# EAGLE library part CHIP (library PP_Sensors)
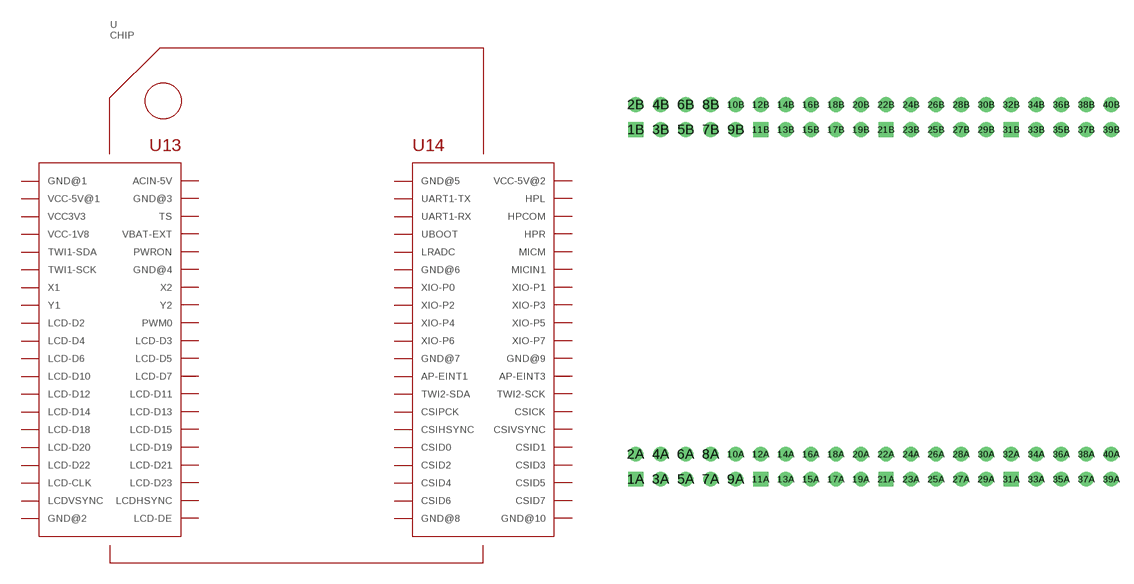
[diagram p6: symbol with the pads of 2X20CHIP; footprint 2X20CHIP]

Designator prefix U

## CHIP  [2X20CHIP]
1A  GND  pwr
1B  GND  pwr
2A  ACIN-5V  pas
2B  VCC-5V  pwr
3A  VCC-5V  pwr
3B  UART1-TX  pas
4A  GND  pwr
4B  HPL  pas
5A  VCC3V3  pwr
5B  UART1-RX  pas
6A  TS  pas
6B  HPCOM  pas
7A  VCC-1V8  pwr
7B  UBOOT  pas
8A  VBAT-EXT  pas
8B  HPR  pas
9A  TWI1-SDA  pas
9B  LRADC  pas
10A  PWRON  pas
10B  MICM  pas
11A  TWI1-SCK  pas
11B  GND  pwr
12A  GND  pwr
12B  MICIN1  pas
13A  X1  pas
13B  XIO-P0  pas
14A  X2  pas
14B  XIO-P1  pas
15A  Y1  pas
15B  XIO-P2  pas
16A  Y2  pas
16B  XIO-P3  pas
17A  LCD-D2  pas
17B  XIO-P4  pas
18A  PWM0  pas
18B  XIO-P5  pas
19A  LCD-D4  pas
19B  XIO-P6  pas
20A  LCD-D3  pas
20B  XIO-P7  pas
21A  LCD-D6  pas
21B  GND  pwr
22A  LCD-D5  pas
22B  GND  pwr
23A  LCD-D10  pas
23B  AP-EINT1  pas
24A  LCD-D7  pas
24B  AP-EINT3  pas
25A  LCD-D12  pas
25B  TWI2-SDA  pas
26A  LCD-D11  pas
26B  TWI2-SCK  pas
27A  LCD-D14  pas
27B  CSIPCK  pas
28A  LCD-D13  pas
28B  CSICK  pas
29A  LCD-D18  pas
29B  CSIHSYNC  pas
30A  LCD-D15  pas
30B  CSIVSYNC  pas
31A  LCD-D20  pas
31B  CSID0  pas
32A  LCD-D19  pas
32B  CSID1  pas
33A  LCD-D22  pas
33B  CSID2  pas
34A  LCD-D21  pas
34B  CSID3  pas
35A  LCD-CLK  pas
35B  CSID4  pas
36A  LCD-D23  pas
36B  CSID5  pas
37A  LCDVSYNC  pas
37B  CSID6  pas
38A  LCDHSYNC  pas
38B  CSID7  pas
39A  GND  pwr
39B  GND  pwr
40A  LCD-DE  pas
40B  GND  pwr

## Footprint 2X20CHIP (pad centres in mm)
drill 0.9 pad 1.5 square: 1A -24.13,-19.02; 1B -24.13,16.48; 11A -11.43,-19.02; 11B -11.43,16.48; 21A 1.27,-19.02; 21B 1.27,16.48; 31A 13.97,-19.02; 31B 13.97,16.48
drill 0.9 pad 1.5: 2A -24.13,-16.48; 2B -24.13,19.02; 3A -21.59,-19.02; 3B -21.59,16.48; 4A -21.59,-16.48; 4B -21.59,19.02; 5A -19.05,-19.02; 5B -19.05,16.48; 6A -19.05,-16.48; 6B -19.05,19.02; 7A -16.51,-19.02; 7B -16.51,16.48; 8A -16.51,-16.48; 8B -16.51,19.02; 9A -13.97,-19.02; 9B -13.97,16.48; 10A -13.97,-16.48; 10B -13.97,19.02; 12A -11.43,-16.48; 12B -11.43,19.02; 13A -8.89,-19.02; 13B -8.89,16.48; 14A -8.89,-16.48; 14B -8.89,19.02; 15A -6.35,-19.02; 15B -6.35,16.48; 16A -6.35,-16.48; 16B -6.35,19.02; 17A -3.81,-19.02; 17B -3.81,16.48; 18A -3.81,-16.48; 18B -3.81,19.02; 19A -1.27,-19.02; 19B -1.27,16.48; 20A -1.27,-16.48; 20B -1.27,19.02; 22A 1.27,-16.48; 22B 1.27,19.02; 23A 3.81,-19.02; 23B 3.81,16.48; 24A 3.81,-16.48; 24B 3.81,19.02; 25A 6.35,-19.02; 25B 6.35,16.48; 26A 6.35,-16.48; 26B 6.35,19.02; 27A 8.89,-19.02; 27B 8.89,16.48; 28A 8.89,-16.48; 28B 8.89,19.02; 29A 11.43,-19.02; 29B 11.43,16.48; 30A 11.43,-16.48; 30B 11.43,19.02; 32A 13.97,-16.48; 32B 13.97,19.02; 33A 16.51,-19.02; 33B 16.51,16.48; 34A 16.51,-16.48; 34B 16.51,19.02; 35A 19.05,-19.02; 35B 19.05,16.48; 36A 19.05,-16.48; 36B 19.05,19.02; 37A 21.59,-19.02; 37B 21.59,16.48; 38A 21.59,-16.48; 38B 21.59,19.02; 39A 24.13,-19.02; 39B 24.13,16.48; 40A 24.13,-16.48; 40B 24.13,19.02